# Altium footprint library KasengLib.PcbLib: 31 footprints (part 1 of 2)
Each footprint in its own frame and in the unit in brackets; x right, y up, seen from the top. Pads: shape width x height; smd on the part's side, far side on the other; paste and mask are expansions set on the pad; w line width, h text height; cw(c..) or ccw(c..) is an arc to the next point about the centre after c.
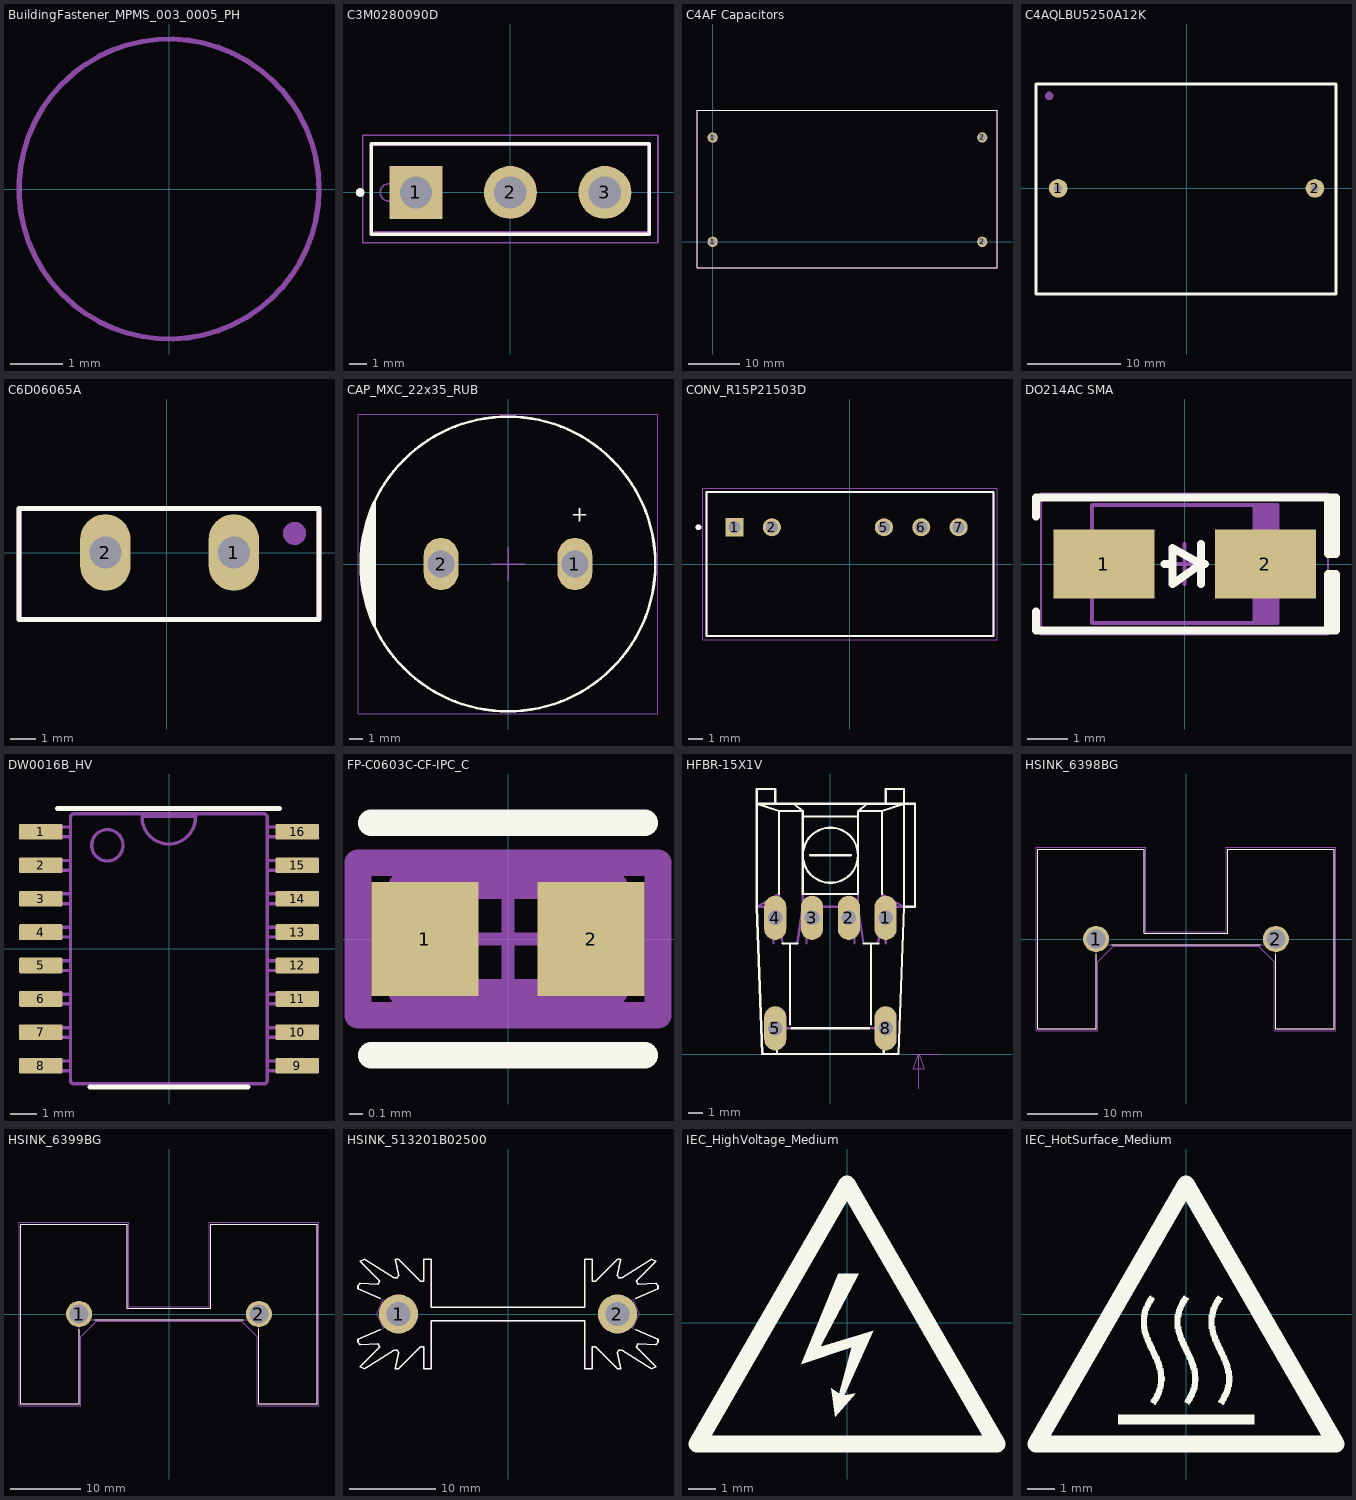
[diagram p0: the footprints below, top view; thin cyan lines are the x and y axes]

## BuildingFastener_MPMS_003_0005_PH [mil] "MACHINE SCREW PAN PHILLIPS M3"
height 97.64
pads (1):
  round 1 on Mech3: 0(0,0)
Mechanical 5:
  circle w3.94: c0,0 r112.2
  text ".Designator" at -55.12,-15.75 h30
3D body "Screw_M3_MPMS 003 0005 PH.stp": height 92.82, standoff -196.25, extent -118.1,-118.1 118.12,118.12

## C3M0280090D [mil] "To-247-3 C3M0280090D"
pads (3):
  rect 120x120 hole 73.23 paste+0 mask+0: 1(-214.17,0)
  round 120 hole 73.23 paste+0 mask+0: 2(0,0) 3(214.17,0)
Top Overlay:
  circle w9.84: c-340.55,0 r4.92
  lines w7.87: -314.96,-94.49 -314.96,110.24 314.96,110.24 314.96,-94.49 -314.96,-94.49
Mechanical 3:
  text ".DESIGNATOR" at 0,0 h47.24
Mechanical 13:
  circle w3.94: c-275.59,0 r19.68
  lines w3.94: -312.99,-89.86 312.99,-89.86 312.99,107.01 -312.99,106.99 -312.99,-89.86
  text "'.Designator'" at -286.06,-66.88 h27.56
Mechanical 15:
  lines w3.94: -19.68,0 19.68,0 ; 0,-19.68 0,19.68 ; -334.65,-114.17 -334.65,129.92 334.65,129.92 334.65,-114.17 -334.65,-114.17
3D body "User Library-PG-TO247-3-21.step": height 995.38, standoff -623.91, extent -312.99,-88.58 312.99,112.2

## C4AF Capacitors [mm]
pads (4):
  round 2 hole 1.35 paste+0 mask+0: 1(0,0)
  round 2 hole 1.3 paste+0 mask+0: 1(0,20.3) 2(52.5,0) 2(52.5,20.32)
Top Overlay:
  lines w0.229: -3.048,-5.08 -3.048,25.654 55.372,25.654 55.372,-5.08 -3.048,-5.08
Mechanical 13:
  lines w0.229: -3.048,-5.08 -3.048,25.654 55.372,25.654 55.372,-5.08 -3.048,-5.08
  text "'.Designator'" at -0.127,-2.498 h1.27
3D body "CFP_RB4_57.5X45X30_L58.1H45.3T30.5S52.5S120.3LL6F1.25.STEP": height 45.31, standoff -5.99, extent -2.888,-5.105 55.212,25.4

## C4AQLBU5250A12K [mm] "Film Capacitor KEMET"
pads (2):
  round 2 hole 0.85 paste+0 mask+0: 1(-13.75,0)
  round 2 hole 0.8 paste+0 mask+0: 2(13.75,0)
Top Overlay:
  lines w0.3: -16.129,11.176 -16.129,10.795 -16.129,-11.239 -16.129,-11.303 16.002,-11.303 16.002,11.176 -16.002,11.176 ; -16.129,11.176 -16.002,11.176 ; -16.129,11.176 -16.002,11.176
Mechanical 13:
  circle w0.508: c-14.732,9.906 r0.203
  lines w0.2: -16.129,11.176 -16.129,10.795 -16.129,-11.239 -16.129,-11.303 16.002,-11.303 16.002,11.176 -16.002,11.176 ; -16.129,11.176 -16.002,11.176 ; -16.129,11.176 -16.002,11.176
  text "'.Designator'" at -13.489,-7.093 h0.9
3D body "C4AQLBU5250A12K-KEMET.STEP": height 37.21, standoff -5.99, extent -15.998,-11.153 16.002,11.153

## C6D06065A [mm] "To-220-2,C6D06065A,"
pads (2):
  oval 2x3.048 hole 1.27 paste+0 mask+0: 1(2.667,0) 2(-2.44,0)
Top Overlay:
  lines w0.2: -5.873,-2.661 -5.873,1.75 6.048,1.75 6.051,1.747 6.051,-2.661 -5.873,-2.661
Mechanical 13:
  circle w0.508: c5.08,0.762 r0.203
  lines w0.2: -5.873,-2.661 -5.873,1.75 6.048,1.75 6.051,1.747 6.051,-2.661 -5.873,-2.661
  text "'.Designator'" at -5.361,-2.207 h0.7
Mechanical 29:
  circle w0.508: c5.08,0.762 r0.203
  lines w0.2: -5.873,-2.661 -5.873,1.75 6.048,1.75 6.051,1.747 6.051,-2.661 -5.873,-2.661
  text "'.Designator'" at -5.361,-2.207 h0.7
3D body "TO-220 2pins short V1.stp": height 19.11, standoff -3, extent -5.942,-2.65 5.942,1.75

## CAP_MXC_22x35_RUB [mm] "22mm Diameter 10mm Lead Spacing Aluminum Electrolytic Capacitors Radial, Can , Snap-In"
height 37
pads (2):
  oval 2.6x3.9 hole 2: 1(5,0) 2(-5,0)
Top Overlay:
  circle w0.2: c0,0 r11
  region: -9.969,-4.649 -10.138,-4.286 -10.423,-3.538 -10.653,-2.771 -10.826,-1.99 -10.942,-1.198 -11,-0.4 -11,0.4 -10.942,1.198 -10.826,1.99 -10.653,2.771 -10.423,3.538 -10.138,4.286 -9.969,4.649
  lines w0.2: -9.969,-4.649 cw(c0,0) -9.969,4.649 -9.969,-4.649
  text "+" at 4.7,2.75 h2
Mechanical 13:
  circle w0.1: c0,0 r11
  lines w0.1: -9.969,-4.649 -9.969,4.649
  text "'.Designator'" at -7.393,-5.89 h0.7
Mechanical 15:
  lines w0.05: -11.2,-11.2 -11.2,11.2 11.2,11.2 11.2,-11.2 -11.2,-11.2
  lines w0.1: -1.25,0 0,0 ; 0,-1.25 0,0 ; 0,1.25 0,0 ; 1.25,0 0,0
3D body "Cap TH D22.00mm H37.00mm L10.00mm.step": height 37, standoff -2.5, extent -11,-11 11.01,11

## CONV_R15P21503D [mm]
pads (5):
  rect 1.23x1.23 hole 0.82: 1(-7.85,2.5)
  round 1.23 hole 0.82: 2(-5.31,2.5) 5(2.31,2.5) 6(4.85,2.5) 7(7.39,2.5)
Top Overlay:
  circle w0.2: c-10.3,2.5 r0.1
  lines w0.127: -9.75,-4.9 9.75,-4.9 9.75,4.9 -9.75,4.9 -9.75,-4.9
Mechanical 13:
  circle w0.2: c-10.3,2.5 r0.1
  lines w0.127: -9.75,-4.9 -9.75,4.9 9.75,4.9 9.75,-4.9 -9.75,-4.9
  text "'.Designator'" at -9.044,-4.239 h0.7
Mechanical 15:
  lines w0.05: -10,-5.15 10,-5.15 10,5.15 -10,5.15 -10,-5.15
3D body "R15P21503D--3DModel-STEP-1.STEP": height 12.01, standoff -4.59, extent -9.75,-4.91 9.75,4.9

## DO214AC SMA [mm] "Molded Diode, 2-Leads, Body 4.30x2.60mm, IPC Medium Density"
height 2.4
pads (2):
  rect 2.5x1.7 smd: 1(-2,0) 2(2,0)
Top Overlay:
  lines w0.2: -3.683,-1.175 -3.683,-1.651 3.75,-1.651 3.75,-0.254 3.556,-0.254 3.556,-1.651 ; -3.683,1.175 -3.683,1.651 3.75,1.651 3.75,0.254 3.556,0.254 3.556,1.651 ; -0.5,0 -0.3,0 ; 0.4,-0.5 0.4,0.5 ; 0.5,0 0.4,0 ; 0.4,0 -0.3,-0.5 -0.3,0.4 0.4,0
Mechanical 13:
  rectangle: 1.681,-1.46 2.3,1.46
  lines w0.1: -2.3,-1.46 2.3,-1.46 2.3,1.46 -2.3,1.46 -2.3,-1.46
Mechanical 15:
  lines w0.05: -3.556,-1.75 3.556,-1.75 3.556,1.75 -3.556,1.75 -3.556,-1.75
  lines w0.1: -0.5,0 0.5,0 ; 0,-0.5 0,0.5
3D body "SMA.STEP": height 2.4, standoff 0, extent -2.6,-1.375 2.6,1.375

## DW0016B_HV [mm]
pads (16):
  rrect17% 1.65x0.6 smd: 1(-4.875,4.445) 2(-4.875,3.175) 3(-4.875,1.905) 4(-4.875,0.635) 5(-4.875,-0.635) 6(-4.875,-1.905) 7(-4.875,-3.175) 8(-4.875,-4.445) 9(4.875,-4.445) 10(4.875,-3.175) 11(4.875,-1.905) 12(4.875,-0.635) 13(4.875,0.635) 14(4.875,1.905) 15(4.875,3.175) 16(4.875,4.445)
Top Overlay:
  lines w0.2: -4.234,5.334 4.191,5.334 ; -3,-5.25 3,-5.25
Mechanical 5:
  drawing of 193 lines, arcs and shapes, not listed
  text ".Designator" at -1.854,-0.508 h1.02
3D body "DW0016AakaM16B.stp": height 2.5, standoff -0.04, extent -5.144,-5.131 5.143,5.131

## FP-C0603C-CF-IPC_C [mm]
pads (2):
  rect 0.807x0.858 smd paste+0 mask+0: 1(-0.626,0) 2(0.626,0)
Top Overlay:
  lines w0.2: -1.029,-0.875 1.029,-0.875 ; -1.029,0.875 1.029,0.875
Mechanical 5:
  lines w0.2: -1.129,-0.575 1.129,-0.575 1.129,0.575 -1.129,0.575 -1.129,-0.575
  text ".Designator" at 0,0.188 h1
Mechanical 13:
  lines w0.2: -0.8,-0.4 0.8,-0.4 0.8,0.4 -0.8,0.4 -0.8,-0.4
Mechanical 15:
  lines w0.2: -1.129,-0.575 1.129,-0.575 1.129,0.575 -1.129,0.575 -1.129,-0.575
Mechanical 16:
  lines w0.1: -0.5,0 0.5,0 ; 0,-0.5 0,0.5
3D body "Cap_KEMET_C0603C272M5JACTU_eec.STEP": height 0.25, standoff 0, extent -1.129,-0.575 1.129,0.575

## HFBR-15X1V [mil]
pads (6):
  oval 60x120 hole 40: 1(150,370) 2(50,370) 3(-50,370) 4(-150,370) 5(-150,70) 8(150,70)
Top Overlay:
  circle w6: c0,540 r75
  lines w6: -145,30 -145,0 ; -140,435 -140,660 ; -130,300 -110,300 ; -110,80 -110,300 ; -105,70 105,70 ; -90,300 -110,300 ; -55,540 55,540 ; 90,300 110,300 ; 110,80 110,300 ; 130,300 110,300 ; 140,435 140,660 ; 145,30 145,0 ; -200,680 -200,720 -150,720 -150,680 ; -200,680 -140,660 ; -200,680 -200,400 -185,0 -145,0 ; -200,680 -150,680 ; -150,680 -100,680 ; -145,0 145,0 ; -140,660 -75,660 ; -100,680 -75,660 ; -100,680 100,680 ; -75,645 75,645 ; -75,645 -75,435 75,435 75,645 ; -75,645 -75,660 ; 75,645 75,660 ; 75,660 140,660 ; 75,660 100,680 ; 100,680 150,680 ; 140,660 200,680 ; 145,0 185,0 200,400 ; 150,680 150,720 200,720 200,680 ; 150,680 200,680 ; 200,400 200,680 ; 200,400 230,400 230,680 200,680
Mechanical 13:
  lines w2: 220,0 240,0 ; 240,-95 240,0 ; 300,0 240,0 ; 240,0 225,-40 255,-40 240,0
  lines w6: -155,300 -160,400 ; -145,30 -145,110 ; -140,70 -105,70 ; -130,300 -140,400 ; -90,300 -75,400 ; -75,435 -75,400 ; -65,300 -65,400 ; 65,300 65,400 ; 75,435 75,400 ; 90,300 75,400 ; 105,70 140,70 ; 130,300 140,400 ; 145,30 145,110 ; 150,300 155,400 ; -160,400 -200,400 -140,435 -140,400 ; -160,400 -140,400 ; -75,400 -65,400 ; -65,400 65,400 ; 65,400 75,400 ; 140,400 140,435 200,400 155,400 ; 140,400 155,400
  text "'.Designator'" at -141.06,185.74 h35.43
3D body "HFBR-x53xZ.STEP": height 740.16, standoff -118.11, extent -201.57,1.89 278.74,722.36

## HSINK_6398BG [mm]
pads (2):
  round 3.686 hole 2.67: 1(-12.7,0) 2(12.7,0)
Top Overlay:
  lines w0.127: -12.7,-2.17 -12.7,-12.7 -20.955,-12.7 -20.955,12.7 -5.915,12.7 -5.915,0.79 5.915,0.79 5.915,12.7 20.955,12.7 20.955,-12.7 12.7,-12.7 12.7,-2.17 ; -10.53,-0.78 10.53,-0.78
Mechanical 13:
  lines w0.127: -20.955,-12.7 -12.7,-12.7 -12.7,-0.78 12.7,-0.78 12.7,-12.7 20.955,-12.7 20.955,12.7 5.915,12.7 5.915,0.79 -5.915,0.79 -5.915,12.7 -20.955,12.7 -20.955,-12.7
  text "'.Designator'" at -19.458,-10.649 h0.9
Mechanical 15:
  lines w0.05: -21.205,-12.95 -12.45,-12.95 -12.45,-3.2 -10.28,-1.03 10.28,-1.03 12.45,-3.2 12.45,-12.95 21.205,-12.95 21.205,12.95 5.665,12.95 5.665,1.04 -5.665,1.04 -5.665,12.95 -21.205,12.95 -21.205,-12.95
3D body "MC33264.step": height 38.1, standoff -3.5, extent -17.308,-6.35 17.312,6.35

## HSINK_6399BG [mm]
pads (2):
  round 3.686 hole 2.67: 1(-12.7,0) 2(12.7,0)
Top Overlay:
  lines w0.127: -12.7,-2.17 -12.7,-12.7 -20.955,-12.7 -20.955,12.7 -5.915,12.7 -5.915,0.79 5.915,0.79 5.915,12.7 20.955,12.7 20.955,-12.7 12.7,-12.7 12.7,-2.17 ; -10.53,-0.78 10.53,-0.78
Mechanical 13:
  lines w0.127: -20.955,-12.7 -20.955,12.7 -5.915,12.7 -5.915,0.79 5.915,0.79 5.915,12.7 20.955,12.7 20.955,-12.7 12.7,-12.7 12.7,-0.78 -12.7,-0.78 -12.7,-12.7 -20.955,-12.7
  text "'.Designator'" at -17.68,5.413 h0.7
Mechanical 15:
  lines w0.05: -21.205,-12.95 -21.205,12.95 -5.665,12.95 -5.665,1.04 5.665,1.04 5.665,12.95 21.205,12.95 21.205,-12.95 12.45,-12.95 12.45,-3.2 10.28,-1.03 -10.28,-1.03 -12.45,-3.2 -12.45,-12.95 -21.205,-12.95
Mechanical 29:
  lines w0.127: -12.7,-2.17 -12.7,-12.7 -20.955,-12.7 -20.955,12.7 -5.915,12.7 -5.915,0.79 5.915,0.79 5.915,12.7 20.955,12.7 20.955,-12.7 12.7,-12.7 12.7,-2.17 ; -10.53,-0.78 10.53,-0.78
  text "'.Designator'" at -17.553,5.413 h0.7
3D body "6399BG--3DModel-STEP-56544.STEP": height 50.81, standoff -3.95, extent -20.955,-12.7 20.955,12.7

## HSINK_513201B02500 [mil]
pads (2):
  round 180 hole 110.24: 1(-500,0) 2(500,0)
Top Overlay:
  lines w7: -584.44,-71.28 -685,-115 -685,-130 -675,-140 -595,-135 -585,-150 -675,-240 -655,-250 -520,-165 -505,-165 -500,-175 -515,-250 -500,-250 -400,-150 -385,-150 -384.37,-250 -350,-250 -350,-31 350,-31 350,-250 384.37,-250 385,-150 400,-150 500,-250 515,-250 500,-175 505,-165 520,-165 655,-250 675,-240 585,-150 595,-135 675,-140 685,-130 685,-115 584.44,-71.28 ; -584.19,71.17 -685,115 -685,130 -675,140 -595,135 -585,150 -675,240 -655,250 -520,165 -505,165 -500,175 -515,250 -500,250 -400,150 -385,150 -384.37,250 -350,250 -350,31 350,31 350,250 384.37,250 385,150 400,150 500,250 515,250 500,175 505,165 520,165 655,250 675,240 585,150 595,135 675,140 685,130 685,115 584.19,71.17
Mechanical 5:
  lines w5: -685,-130 -685,-115 -570,-65 -600,0 -570,65 -685,115 -685,130 -675,140 -595,135 -585,150 -675,240 -655,250 -520,165 -505,165 -500,175 -515,250 -500,250 -400,150 -385,150 -384.37,250 -350,250 -350,31 350,31 350,250 384.37,250 385,150 400,150 500,250 515,250 500,175 505,165 520,165 655,250 675,240 585,150 595,135 675,140 685,130 685,115 570,65 600,0 570,-65 685,-115 685,-130 675,-140 595,-135 585,-150 675,-240 655,-250 520,-165 505,-165 500,-175 515,-250 500,-250 400,-150 385,-150 384.37,-250 350,-250 350,-31 -350,-31 -350,-250 -384.37,-250 -385,-150 -400,-150 -500,-250 -515,-250 -500,-175 -505,-165 -520,-165 -655,-250 -675,-240 -585,-150 -595,-135 -675,-140 -685,-130
  text ".Designator" at -74,-20 h40
3D body: height 44, standoff -156, extent -544.64,-44.91 -454.99,44.92
3D body: height 44, standoff -156, extent 455,-44.92 544.64,44.91
3D body: height 2000, standoff 0, extent -685,-250 0,250
3D body: height 2000, standoff 0, extent 0,-250 685,250

## IEC_HighVoltage_Medium [mm]
Top Overlay:
  region: -0.33,1.803 0.432,1.803 -0.991,-0.889 0.965,-0.305 -0.102,-2.667 0.33,-2.591 -0.432,-3.454 -0.584,-2.413 -0.279,-2.616 0.178,-0.914 -1.676,-1.524
  lines w0.635: -5.512,-4.458 5.512,-4.458 0,5.089 -5.512,-4.458

## IEC_HotSurface_Medium [mm]
Top Overlay:
  drawing of 7 lines, arcs and shapes, not listed